# Altium footprint library 3-1825910-5.PcbLib: 1 footprints
Each footprint in its own frame and in the unit in brackets; x right, y up, seen from the top. Pads: shape width x height; smd on the part's side, far side on the other; paste and mask are expansions set on the pad; w line width, h text height; cw(c..) or ccw(c..) is an arc to the next point about the centre after c.
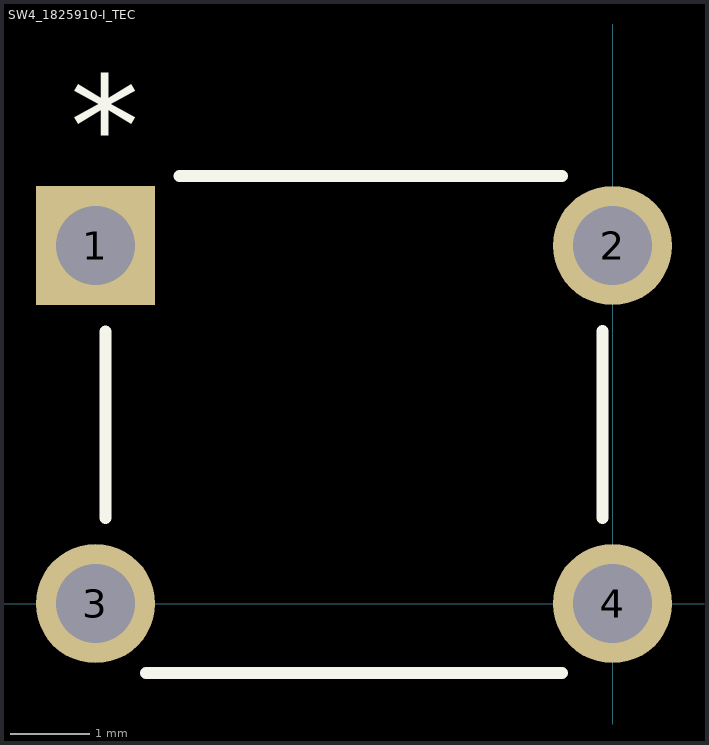
[diagram p0: the footprint, top view; thin cyan lines are the x and y axes]

## SW4_1825910-I_TEC [mil]
pads (4):
  rect 59x59 / inner round 60 / far side rect 59x59 hole 39 paste-99999 mask+0: 1(-255.91,177.17)
  round 59 / inner round 60 / far side round 59 hole 39 paste-99999 mask-29.5: 2(0,177.17) 3(-255.91,0) 4(0,0)
Top Overlay:
  lines w6: -250.95,42.31 -250.95,134.57 ; -230.8,-34.42 -25.1,-34.42 ; -214.26,211.58 -25.1,211.58 ; -4.95,42.31 -4.95,134.85
  text "*" at -268.41,211.67 h50